# Altium footprint library ECG-2.PcbLib: 10 footprints
Each footprint in its own frame and in the unit in brackets; x right, y up, seen from the top. Pads: shape width x height; smd on the part's side, far side on the other; paste and mask are expansions set on the pad; w line width, h text height; cw(c..) or ccw(c..) is an arc to the next point about the centre after c.
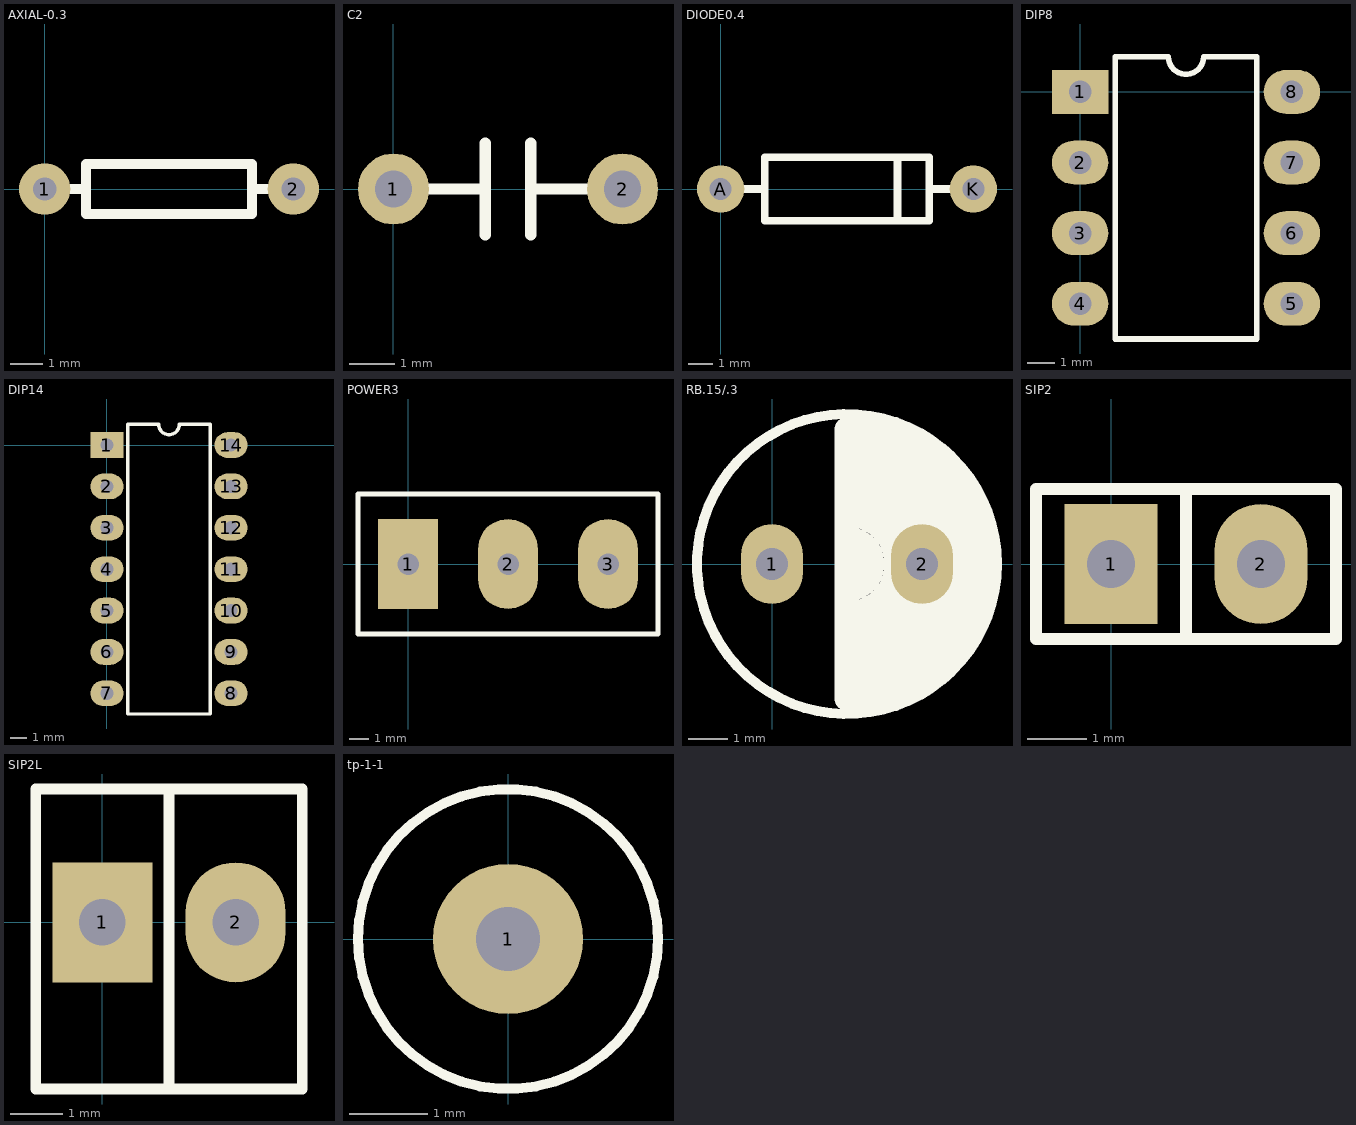
[diagram p0: the footprints below, top view; thin cyan lines are the x and y axes]

## AXIAL-0.3 [mil]
pads (2):
  round 62 hole 28: 1(0,0) 2(300,0)
Top Overlay:
  lines w12: 0,0 50,0 ; 300,0 250,0 ; 250,0 250,30 50,30 50,-30 250,-30 250,0
3D body: height 92.92, standoff -45.37, extent -10,-38.24 310,38.24

## C2 [mil]
pads (2):
  round 62 hole 32: 1(0,0) 2(200,0)
Top Overlay:
  lines w10: 0,0 80,0 ; 80,-40 80,0 ; 80,40 80,0 ; 120,-40 120,0 ; 120,40 120,0 ; 200,0 120,0
3D body: height 413.39, standoff -81.38, extent -59.06,-49.41 255.91,49.41

## DIODE0.4 [mil]
height 230.31
pads (2):
  round 75 hole 35: A(0,0) K(400,0)
Top Overlay:
  lines w12: 0,0 70,0 ; 280,-50 280,50 ; 330,0 400,0 ; 70,-50 70,50 330,50 330,-50 70,-50
3D body: height 129.92, standoff -78.74, extent -17.72,-50.36 417.72,52

## DIP8 [mil]
pads (8):
  rect 80x62 hole 32: 1(0,0)
  oval 80x62 hole 32: 2(0,-100) 3(0,-200) 4(0,-300) 5(300,-300) 6(300,-200) 7(300,-100) 8(300,0)
Top Overlay:
  lines w8: 50,-350 250,-350 250,50 175,50 cw(c150,50) 125,50 50,50 50,-350
3D body: height 179.92, standoff -150, extent -9.93,-342.07 297.94,48.08

## DIP14 [mil]
pads (14):
  rect 80x62 hole 32: 1(0,0)
  oval 80x62 hole 32: 2(0,-100) 3(0,-200) 4(0,-300) 5(0,-400) 6(0,-500) 7(0,-600) 8(300,-600) 9(300,-500) 10(300,-400) 11(300,-300) 12(300,-200) 13(300,-100) 14(300,0)
Top Overlay:
  lines w8: 50,-650 250,-650 250,50 175,50 cw(c150,50) 125,50 50,50 50,-650
3D body: height 165, standoff -105, extent -5,-675 305,75

## POWER3 [mil]
pads (3):
  rect 120x180 hole 43: 1(0,0)
  oval 120x180 hole 43: 2(200,0) 3(400,0)
Top Overlay:
  lines w10: -100,-140 500,-140 500,140 -100,140 -100,-140
3D body: height 472.44, standoff -153.54, extent -105,-150 495,188.58

## RB.15/.3 [mil]
pads (2):
  oval 62x80 hole 32: 1(0,0) 2(150,0)
Top Overlay:
  circle w10: c75,0 r150
  lines w25: 75,-111.8 ccw(c75,0) 75,111.8 ; 75,-90.14 ccw(c75,0) 75,90.14 ; 75,-70.71 ccw(c75,0) 75,70.71 ; 75,-50 ccw(c75,0) 75,50 ; 75,-25 ccw(c75,0) 75,25 ; 75,-134.63 ccw(c75,0) 75,134.63 75,-134.63
3D body: height 503.94, standoff -27.56, extent -82.42,-159.49 232.42,155

## SIP2 [mil]
pads (2):
  rect 62x80 hole 32: 1(0,0)
  oval 62x80 hole 32: 2(100,0)
Top Overlay:
  lines w8: 50,-50 50,50 ; -50,-50 -50,50 150,50 150,-50 -50,-50
3D body: height 646.1, standoff 101.93, extent -48.43,-47.24 148.43,47.24
3D body: height 336.22, standoff -118.11, extent -50,-50 150,50

## SIP2L [mil]
pads (2):
  rect 75x90 hole 35: 1(0,0)
  oval 75x90 hole 35: 2(100,0)
Top Overlay:
  lines w8: 50,-125 50,100 ; -50,-125 -50,100 150,100 150,-125 -50,-125
3D body: height 275.59, standoff -129.92, extent -96.35,-134 198.93,90.41

## tp-1-1 [mil]
height 230.31
pads (1):
  round 75 hole 32: 1(0,0)
Top Overlay:
  circle w5: c0,0 r75
3D body: height 319.95, standoff -121.94, extent -67.5,-57.5 57.5,67.5